# Altium schematic symbol library 0R_7TRACES.Schlib: 1 symbol
Pins are listed as number, name and electrical type; pins without a type are passive.

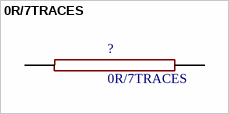
[diagram p0: symbol 0R/7TRACES]

## 0R/7TRACES
designator ?
footprint 0R/7TRACES
pins: P$1, P$2